# Altium footprint library Miscellaneous.PcbLib: 70 footprints (part 2 of 5)
Each footprint in its own frame and in the unit in brackets; x right, y up, seen from the top. Pads: shape width x height; smd on the part's side, far side on the other; paste and mask are expansions set on the pad; w line width, h text height; cw(c..) or ccw(c..) is an arc to the next point about the centre after c.
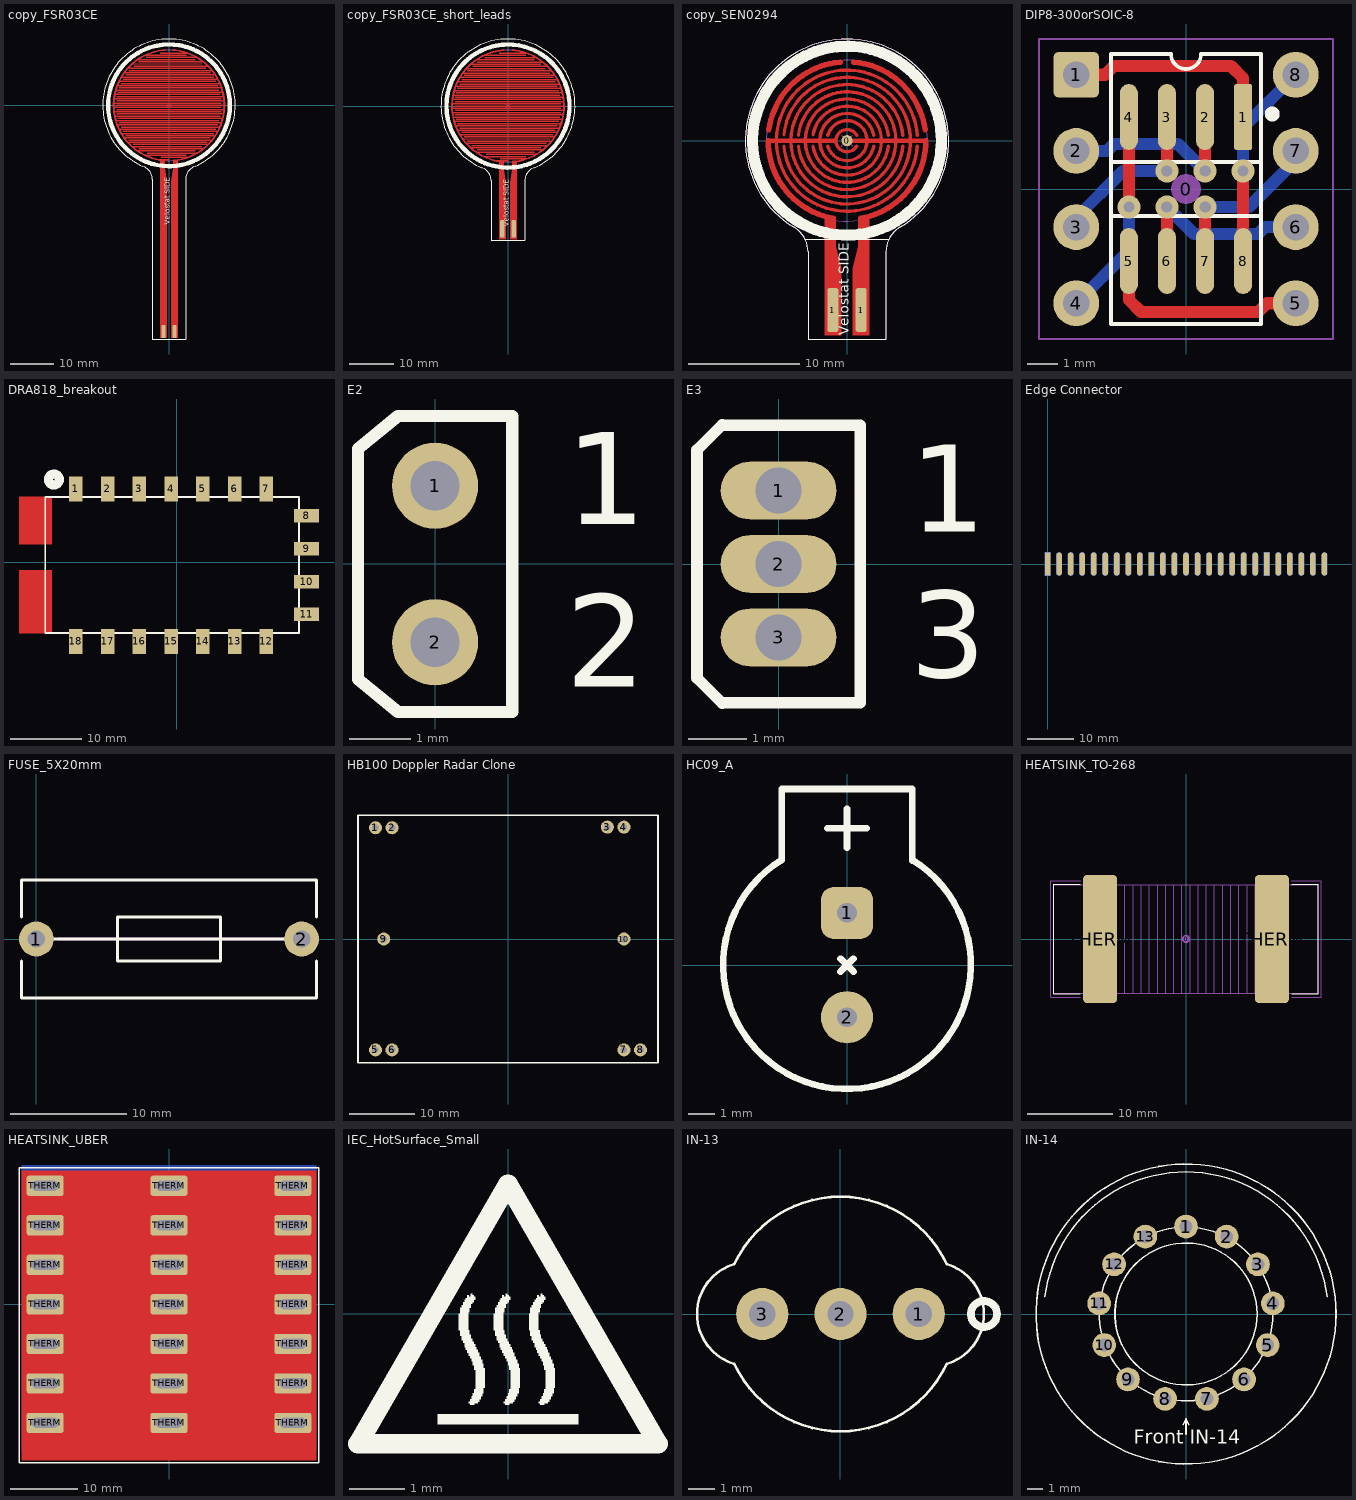
[diagram p1: the footprints below, top view; thin cyan lines are the x and y axes]

## copy_FSR03CE [mm] "FSR03CE"
pads (2):
  rrect50% 1x3 smd paste-4: 1(-1.27,-52.07) 1(1.27,-52.07)
Top Layer:
  region: -2,-53.5 -2,-12.5 -1.004,-12.5 -1.004,-14.5 -0.5,-17.5 -0.5,-53.5
  region: 2,-53.5 2,-12.5 1,-12.5 1,-14.5 0.5,-17.5 0.5,-53.5
  lines w0.3: -12.75,0.5 12,0.5 ; -12.5,-2.5 11.75,-2.5 ; -12.5,-1.5 12,-1.5 ; -12.5,-0.5 12,-0.5 ; -12.5,1.5 12,1.5 ; -12.5,2.5 11.75,2.5 ; -12.25,-3.5 11.5,-3.5 ; -12.25,3.5 11.5,3.5 ; -12,-2 12.5,-2 ; -12,-1 12.75,-1 ; -12,0 12.75,0 ; -12,1 12.5,1 ; -12,2 12.5,2 ; -12,4.5 11.25,4.5 ; -11.75,-4.5 11.25,-4.5 ; -11.75,-3 12.25,-3 ; -11.75,3 12.25,3 ; -11.5,-5.5 10.75,-5.5 ; -11.5,-4 12,-4 ; -11.5,4 12,4 ; -11.5,5.5 10.75,5.5 ; -11,-6.5 10.25,-6.5 ; -11,-5 11.75,-5 ; -11,5 11.75,5 ; -11,6.5 10.25,6.5 ; -10.5,-6 11.25,-6 ; -10.5,6 11.25,6 ; -10.25,-7.5 9.5,-7.5 ; -10.25,7.5 9.5,7.5 ; -10,-7 10.5,-7 ; -10,7 10.5,7 ; -9.5,-8.5 8.75,-8.5 ; -9.5,8.5 8.5,8.5 ; -9.25,-8 10,-8 ; -9.25,8 10,8 ; -8.5,-9.5 7.5,-9.5 ; -8.5,9.5 7.5,9.5 ; -8.25,-9 9,-9 ; -8,9 9,9 ; -7.25,-10.5 6,-10.5 ; -7.25,10.5 6,10.5 ; -7,-10 8,-10 ; -7,10 7.75,10 ; -5.5,-11.5 4,-11.5 ; -5.5,11.5 4,11.5 ; -5.25,11 6.25,11 ; -5,-11 6.5,-11 ; -2.5,-12.5 0,-12.5 ; -2,12 4.25,12 ; -1.75,-12 4.25,-12
  lines w0.4: -1.247,-12.689 cw(c0,0) -1.017,12.709 ; 1.017,12.709 cw(c0,0) 1.247,-12.689
Top Overlay:
  circle w1: c0,0 r14
  lines w0.1: -6.007,-14.017 cw(c-7.072,-17.102) -3.81,-17 -3.81,-53.75 3.81,-53.75 3.81,-17 cw(c7.072,-17.102) 6.007,-14.017 ccw(c0,0) -6.007,-14.017
  text "Velostat SIDE" at 0.641,-27.498 h2
Dimensions:
  circle w0.1: c0,0 r12.71
  lines w0.1: -0.5,-0.5 0.5,0.5 ; -0.5,0.5 0.5,-0.5

## copy_FSR03CE_short_leads [mm] "FSR03CE"
pads (2):
  rrect50% 1x4 smd paste-5: 1(-1.27,-27.94) 2(1.27,-27.94)
Top Layer:
  region: -2.5,-53
  region: -2,-30.25 -2,-12.5 -1.004,-12.5 -1.004,-14.5 -0.5,-17.5 -0.5,-30.25
  region: 2,-30.25 2,-12.5 1,-12.5 1,-14.5 0.5,-17.5 0.5,-30.25
  region: -2.5,-29.7
  lines w0.3: -12.75,0.5 12,0.5 ; -12.5,-2.5 11.75,-2.5 ; -12.5,-1.5 12,-1.5 ; -12.5,-0.5 12,-0.5 ; -12.5,1.5 12,1.5 ; -12.5,2.5 11.75,2.5 ; -12.25,-3.5 11.5,-3.5 ; -12.25,3.5 11.5,3.5 ; -12,-2 12.5,-2 ; -12,-1 12.75,-1 ; -12,0 12.75,0 ; -12,1 12.5,1 ; -12,2 12.5,2 ; -12,4.5 11.25,4.5 ; -11.75,-4.5 11.25,-4.5 ; -11.75,-3 12.25,-3 ; -11.75,3 12.25,3 ; -11.5,-5.5 10.75,-5.5 ; -11.5,-4 12,-4 ; -11.5,4 12,4 ; -11.5,5.5 10.75,5.5 ; -11,-6.5 10.25,-6.5 ; -11,-5 11.75,-5 ; -11,5 11.75,5 ; -11,6.5 10.25,6.5 ; -10.5,-6 11.25,-6 ; -10.5,6 11.25,6 ; -10.25,-7.5 9.5,-7.5 ; -10.25,7.5 9.5,7.5 ; -10,-7 10.5,-7 ; -10,7 10.5,7 ; -9.5,-8.5 8.75,-8.5 ; -9.5,8.5 8.5,8.5 ; -9.25,-8 10,-8 ; -9.25,8 10,8 ; -8.5,-9.5 7.5,-9.5 ; -8.5,9.5 7.5,9.5 ; -8.25,-9 9,-9 ; -8,9 9,9 ; -7.25,-10.5 6,-10.5 ; -7.25,10.5 6,10.5 ; -7,-10 8,-10 ; -7,10 7.75,10 ; -5.5,-11.5 4,-11.5 ; -5.5,11.5 4,11.5 ; -5.25,11 6.25,11 ; -5,-11 6.5,-11 ; -2.5,-12.5 0,-12.5 ; -2,12 4.25,12 ; -1.75,-12 4.25,-12
  lines w0.4: -1.247,-12.689 cw(c0,0) -1.017,12.709 ; 1.017,12.709 cw(c0,0) 1.247,-12.689
Top Overlay:
  circle w1: c0,0 r14
  lines w0.1: -6.007,-14.017 cw(c-7.072,-17.102) -3.81,-17 -3.81,-30.48 3.81,-30.48 3.81,-17 cw(c7.072,-17.102) 6.007,-14.017 ccw(c0,0) -6.007,-14.017
  text "Velostat SIDE" at 0.641,-27.498 h2
Dimensions:
  circle w0.1: c0,0 r12.71
  lines w0.1: -0.5,-0.5 0.5,0.5 ; -0.5,0.5 0.5,-0.5

## copy_SEN0294 [mm] "RP-C18.3-LT"
pads (3):
  round 1 smd paste-2 mask+0.102: 0(0,0)
  rrect50% 1x4 smd paste-4: 1(-1.27,-15.24) 1(1.27,-15.24)
Top Layer:
  region: 2,-17.5 2,-7 1,-7 1,-9.5 0.5,-11.5 0.5,-17.5
  region: -2,-17.5 -2,-7 -1.004,-7 -1.004,-9.484 -0.5,-11.5 -0.5,-17.5
  lines w0.3: -5.677,-0.516 ccw(c0,0) -5.677,0.516 ; -4.372,-0.5 ccw(c0,0) -4.372,0.5 ; -3.058,-0.51 ccw(c0,0) -3.058,0.51 ; -1.729,-0.5 ccw(c0,0) -1.729,0.5 ; 0.866,-0.5 cw(c0,0) 0.866,0.5 ; 2.398,-0.5 cw(c0,0) 2.398,0.5 ; 3.717,-0.5 cw(c0,0) 3.717,0.5 ; 5.025,-0.502 cw(c0,0) 5.025,0.502 ; 6.33,-0.5 cw(c0,0) 6.33,0.5
  lines w0.4: -7,0 -1,0 ; 0,0 7,0
  lines w0.5: -7.1,0 ccw(c0,0) -1.248,-6.989 ; -7.029,1.004 cw(c0,0) -0.619,7.073 ; 0.619,7.073 cw(c0,0) 7.029,1.004 ; 1.248,-6.989 ccw(c0,0) 7.1,0
Top Overlay:
  circle w1: c0,0 r8.5
  lines w0.1: -3.784,-8.85 3.784,-8.85 ; -4.849,-7.759 cw(c0,0) 4.849,-7.759 ccw(c6.079,-10.026) 3.5,-10 3.5,-17.85 -3.5,-17.85 -3.5,-10 ccw(c-6.079,-10.026) -4.849,-7.759
  text "Velostat SIDE" at 0.481,-17.499 h1.5
Dimensions:
  circle w0.1: c0,0 r7.25
  lines w0.1: -0.5,-0.5 0.5,0.5 ; -0.5,0.5 0.5,-0.5 ; -4.849,-7.759 cw(c-6.079,-10.026) -3.5,-10 -3.5,-17.85 3.5,-17.85 3.5,-10 cw(c6.079,-10.026) 4.849,-7.759 ccw(c0,0) -4.849,-7.759

## DIP8-300orSOIC-8 [mil] "DIP, 8-Leads, 0.300\" lead span , 0.100\" lead pitch, IPC Density A"
height 210
pads (17):
  round 39.37 on Mech15: 0(0,0)
  rrect25% 60x60 hole 35: 1(-144,150)
  rrect25% 23.62x86.61 smd paste-78.74: 1(75,94.49)
  round 60 hole 35: 2(-144,50) 3(-144,-50) 4(-144,-150) 5(144,-150) 6(144,-50) 7(144,50) 8(144,150)
  oval 23.62x86.61 smd paste-78.74: 2(25,94.49) 3(-25,94.49) 4(-75,94.49) 5(-75,-94.49) 6(-25,-94.49) 7(25,-94.49) 8(75,-94.49)
via -74.8,-23.62 diameter 30 hole 15
via 74.8,23.62 diameter 30 hole 15
via -25,23.62 diameter 30 hole 15
via 25,23.62 diameter 30 hole 15
via -25,-23.62 diameter 30 hole 15
via 25,-23.62 diameter 30 hole 15
Top Layer:
  lines w16: -144,150 -106.3,150 -94.88,161.42 59.06,161.42 75,145.47 75,94.49 ; -75,-94.49 -75,-145.47 -59.06,-161.42 94.88,-161.42 106.3,-150 144,-150 ; -75,-23.43 -75,94.49 ; -25,-94.49 -25,-23.62 ; -25,23.62 -25,94.49 ; 25,-94.49 25,-23.62 ; 25,23.62 25,94.49 ; 75,-94.49 75,23.43
Bottom Layer:
  lines w16: -144,-150 -74.8,-80.8 -74.8,-23.62 ; -144,-50 -144,-37.7 -82.68,23.62 -25,23.62 ; -144,50 -103.54,50 -94.49,59.06 -10.43,59.06 25,23.62 ; -25,-23.62 10.43,-59.06 94.49,-59.06 103.54,-50 144,-50 ; 25,-23.62 82.68,-23.62 132.68,26.38 132.68,50 144,50 ; 74.8,23.62 74.8,80.8 144,150
Top Overlay:
  circle w9.84: c113.19,98.43 r4.92
  lines w5: -98.43,-177.17 98.43,-177.17 98.43,177.17 19.69,177.17 cw(c0,177.17) -19.69,177.17 -98.43,177.17 -98.43,-177.17 ; -98.43,-35.43 -98.43,35.43 98.43,35.43 98.43,-35.43 -98.43,-35.43
Top Paste:
  region: 65.55,129.13 65.55,59.84 84.45,59.84 84.45,129.13
  region: 15.55,129.13 15.55,59.84 34.45,59.84 34.45,129.13
  region: -34.45,129.13 -34.45,59.84 -15.55,59.84 -15.55,129.13
  region: -84.45,129.13 -84.45,59.84 -65.55,59.84 -65.55,129.13
  region: 65.55,-59.84 65.55,-129.13 84.45,-129.13 84.45,-59.84
  region: 15.55,-59.84 15.55,-129.13 34.45,-129.13 34.45,-59.84
  region: -34.45,-59.84 -34.45,-129.13 -15.55,-129.13 -15.55,-59.84
  region: -84.45,-59.84 -84.45,-129.13 -65.55,-129.13 -65.55,-59.84
Mechanical 13:
  lines w3: -98.43,-177.17 -98.43,177.17 -19.69,177.17 ccw(c0,177.17) 19.69,177.17 98.43,177.17 98.43,-177.17 -98.43,-177.17
Mechanical 15:
  lines w3: -192.91,-196.85 192.91,-196.85 192.91,196.85 -192.91,196.85 -192.91,-196.85
3D body "SW3DPS-DIP8-DEFAULT.STEP": height 165, standoff -105, extent -149,-225 161,225

## DRA818_breakout [mm]
pads (18):
  rect 1.9x3.5 smd: 1(-14.125,10.3) 2(-9.675,10.3) 3(-5.225,10.3) 4(-0.775,10.3) 5(3.675,10.3) 6(8.125,10.3) 7(12.575,10.3) 12(12.575,-11.1) 13(8.125,-11.1) 14(3.675,-11.1) 15(-0.775,-11.1) 16(-5.225,-11.1) 17(-9.675,-11.1) 18(-14.125,-11.1)
  rect 3.5x1.9 smd: 8(18.2,6.499) 9(18.2,1.9) 10(18.2,-2.701) 11(18.2,-7.301)
Top Layer:
  rectangle: -22.1,2.5 -17.5,9.2
  rectangle: -22.1,-10 -17.5,-1.1
Top Overlay:
  circle w1.27: c-17.2,11.6 r0.764
  lines w0.254: -18.415,-9.906 -18.415,9.144 17.145,9.144 17.145,-9.906 -18.415,-9.906
Drill Guide:
  lines w0.254: 12.321,10.3 12.829,10.3 ; 12.575,10.046 12.575,10.554
3D body: height 3, standoff 0, extent -18.414,-9.905 17.144,9.143

## E2 [mm] "TO, Flat Index; 2 In-Line, Axial Leads; Body Dia. 4.6mm; Lead Dia. 0.5 mm (max)"
height 4.01
pads (2):
  round 1.4 hole 0.8: 1(0,1.27) 2(0,-1.27)
Top Overlay:
  lines w0.2: -1.25,-1.87 -1.25,1.87 -0.6,2.4 1.25,2.4 1.25,-2.4 -0.6,-2.4 -1.25,-1.87
  text "1" at 2.117,0.647 h1.5
  text "2" at 2.117,-1.988 h1.5

## E3 [mm] "TO, Flat Index; 3 In-Line, Axial Leads; Body Dia. 4.6mm; Lead Dia. 0.5 mm (max)"
height 4.01
pads (3):
  oval 2x1 hole 0.8: 1(0,1.27) 2(0,0) 3(0,-1.27)
Top Overlay:
  lines w0.2: -0.97,-2.41 -1.41,-1.97 -1.41,1.97 -0.97,2.41 ; -0.97,-2.4 1.41,-2.4 1.41,2.4 -0.97,2.4
  text "3" at 2.275,-1.963 h1.5
  text "1" at 2.275,0.555 h1.5

## Edge Connector [mm]
pads (50):
  rect 1.2x5 smd: A1(0,0) A10(22.5,0) A20(47.5,0)
  oval 1.2x5 smd: A2(2.5,0) A3(5,0) A4(7.5,0) A5(10,0) A6(12.5,0) A7(15,0) A8(17.5,0) A9(20,0) A11(25,0) A12(27.5,0) A13(30,0) A14(32.5,0) A15(35,0) A16(37.5,0) A17(40,0) A18(42.5,0) A19(45,0) A21(50,0) A22(52.5,0) A23(55,0) A24(57.5,0) A25(60,0)
  rect 1.2x5 smd far side: B1(0,0) B10(22.5,0) B20(47.5,0)
  oval 1.2x5 smd far side: B2(2.5,0) B3(5,0) B4(7.5,0) B5(10,0) B6(12.5,0) B7(15,0) B8(17.5,0) B9(20,0) B11(25,0) B12(27.5,0) B13(30,0) B14(32.5,0) B15(35,0) B16(37.5,0) B17(40,0) B18(42.5,0) B19(45,0) B21(50,0) B22(52.5,0) B23(55,0) B24(57.5,0) B25(60,0)

## FUSE_5X20mm [mm]
pads (2):
  round 3 hole 1.5: 1(0,0) 2(22.86,0)
Top Overlay:
  lines w0.25: -1.27,-1.905 -1.27,-5.08 24.13,-5.08 24.13,-1.905 ; -1.27,1.905 -1.27,5.08 24.13,5.08 24.13,1.905 ; 0,0 22.86,0 ; 6.985,-1.905 6.985,0 6.985,1.905 11.43,1.905 15.875,1.905 15.875,0 15.875,-1.905 11.43,-1.905 6.985,-1.905
Mechanical 1:
  lines w0.25: 1.905,0 21.905,0
3D body "User Library-5x20mm PCB Fuse Holder Assy_ 1.STEP": height 14.47, standoff -3.88, extent -0.682,-4.536 23.568,4.464

## HB100 Doppler Radar Clone [mm] "HB100 Doppler Radar Unit, dimensions are for clone modules which have a smaller board outline but same pin centres as the genuine parts."
pads (10):
  round 2 hole 1: 1(-20.32,17.06) 2(-17.78,17.06) 3(15.24,17.16) 4(17.78,17.16) 5(-20.32,-17.01) 6(-17.78,-17.01) 7(17.78,-17.01) 8(20.32,-17.01) 9(-19.05,0) 10(17.78,0)
Top Overlay:
  lines w0.254: -23,-19 -23,19 23,19 23,-19 -23,-19
3D body "User Library-HB100-Clone-1.step": height -0.95, standoff -9, extent -22.5,-18.5 22.5,18.5

## HC09_A [mm]
height 5
pads (2):
  rrect50% 2x2 hole 0.75: 1(0,2)
  round 2 hole 0.75: 2(0,-2)
Top Overlay:
  lines w0.254: -2.517,4.028 ccw(c0,0) 2.517,4.028 ; -2.5,4.028 -2.5,6.75 2.5,6.75 2.5,4 ; -0.75,5.25 0.75,5.25 ; -0.25,-0.25 0.25,0.25 ; -0.25,0.25 0.25,-0.25 ; 0,4.5 0,6

## HEATSINK_TO-268 [mm] "SMD heatsink for use with TO-268 / D3-PAK component"
height 10.16
pads (3):
  round 1 on Mech15: 0(0,0)
  rrect25% 4x15 smd: THERM(-10.05,0) THERM(10.05,0)
Top Overlay:
  lines w0.127: -12.4,-6.4 -15.5,-6.4 -15.5,6.4 -12.4,6.4 ; 12.4,-6.4 15.5,-6.4 15.5,6.4 12.4,6.4
Mechanical 13:
  lines w0.05: -10.275,-6.35 -10.275,-6.477 -8.775,-6.477 -8.775,-6.35 ; -10.275,6.35 -10.275,6.477 -8.775,6.477 -8.775,6.35 ; -9.366,-6.35 -9.366,6.35 ; -8.096,-6.35 -8.096,6.35 ; -7.144,-6.35 -7.144,6.35 ; -6.191,-6.35 -6.191,6.35 ; -5.239,-6.35 -5.239,6.35 ; -4.286,-6.35 -4.286,6.35 ; -3.334,-6.35 -3.334,6.35 ; -2.381,-6.35 -2.381,6.35 ; -1.429,-6.35 -1.429,6.35 ; -0.476,-6.35 -0.476,6.35 ; 0.476,-6.35 0.476,6.35 ; 1.429,-6.35 1.429,6.35 ; 2.381,-6.35 2.381,6.35 ; 3.334,-6.35 3.334,6.35 ; 4.286,-6.35 4.286,6.35 ; 5.239,-6.35 5.239,6.35 ; 6.191,-6.35 6.191,6.35 ; 7.144,-6.35 7.144,6.35 ; 8.096,-6.35 8.096,6.35 ; 8.775,-6.35 8.775,-6.477 10.275,-6.477 10.275,-6.35 ; 8.775,6.35 8.775,6.477 10.275,6.477 10.275,6.35 ; 9.366,-6.35 9.366,6.35 ; -15.5,-6.35 -15.5,6.35 15.5,6.35 15.5,-6.35 -15.5,-6.35
Mechanical 15:
  lines w0.127: -12.4,-6.8 -15.8,-6.8 -15.8,6.8 -12.3,6.8 ; 12.3,6.8 15.8,6.8 15.8,-6.8 12.4,-6.8
3D body "Ohmite Style 10 Heatsink.STEP": height 10.16, standoff 0.01, extent -15.5,-6.477 15.5,6.477

## HEATSINK_UBER [mm]
height 60
pads (21):
  rrect20% 5.5x3 hole 1.5 slot 4 at 0 deg: THERM(-18.5,-17.7) THERM(-18.5,-11.8) THERM(-18.5,-5.9) THERM(-18.5,0) THERM(-18.5,5.9) THERM(-18.5,11.8) THERM(-18.5,17.7) THERM(0,-17.7) THERM(0,-11.8) THERM(0,-5.9) THERM(0,0) THERM(0,5.9) THERM(0,11.8) THERM(0,17.7) THERM(18.5,-17.7) THERM(18.5,-11.8) THERM(18.5,-5.9) THERM(18.5,0) THERM(18.5,5.9) THERM(18.5,11.8) THERM(18.5,17.7)
Top Layer:
  rectangle: -22,-23.3 22,20
Bottom Layer:
  region: 22,20.8 -22,20.8 -22,-22 22,-22
Top Overlay:
  lines w0.2: -22.4,-23.7 22.4,-23.7 22.4,20.4 -22.4,20.4 -22.4,-23.7
Mechanical 13:
  lines w0.05: -15.5,-18.395 -3,-18.395 ; -15.5,-18.145 -15.5,-22.443 -3,-22.443 -3,-18.145 ; -15.5,-12.495 -3,-12.495 ; -15.5,-12.245 -15.5,-16.543 -3,-16.543 -3,-12.245 ; -15.5,-6.595 -3,-6.595 ; -15.5,-6.345 -15.5,-10.643 -3,-10.643 -3,-6.345 ; -15.5,-0.694 -3,-0.694 ; -15.5,-0.445 -15.5,-4.743 -3,-4.743 -3,-0.445 ; -15.5,5.206 -3,5.206 ; -15.5,5.456 -15.5,1.157 -3,1.157 -3,5.456 ; -15.5,11.106 -3,11.106 ; -15.5,11.356 -15.5,7.057 -3,7.057 -3,11.356 ; -15.5,17.006 -3,17.006 ; -15.5,17.256 -15.5,12.957 -3,12.957 -3,17.256 ; 3,-18.395 15.5,-18.395 ; 3,-18.145 3,-22.443 15.5,-22.443 15.5,-18.145 ; 3,-12.495 15.5,-12.495 ; 3,-12.245 3,-16.543 15.5,-16.543 15.5,-12.245 ; 3,-6.595 15.5,-6.595 ; 3,-6.345 3,-10.643 15.5,-10.643 15.5,-6.345 ; 3,-0.694 15.5,-0.694 ; 3,-0.445 3,-4.743 15.5,-4.743 15.5,-0.445 ; 3,5.206 15.5,5.206 ; 3,5.456 3,1.157 15.5,1.157 15.5,5.456 ; 3,11.106 15.5,11.106 ; 3,11.356 3,7.057 15.5,7.057 15.5,11.356 ; 3,17.006 15.5,17.006 ; 3,17.256 3,12.957 15.5,12.957 15.5,17.256 ; -20,-18.145 20,-18.145 20,-17.256 -20,-17.256 -20,-18.145 ; -20,-12.245 -20,-11.356 20,-11.356 20,-12.245 -20,-12.245 ; -20,-6.345 -20,-5.456 20,-5.456 20,-6.345 -20,-6.345 ; -20,-0.445 -20,0.445 20,0.445 20,-0.445 -20,-0.445 ; -20,5.456 -20,6.345 20,6.345 20,5.456 -20,5.456 ; -20,11.356 -20,12.245 20,12.245 20,11.356 -20,11.356 ; -20,17.256 -20,18.145 20,18.145 20,17.256 -20,17.256
3D body "heatsink assy.STEP": height 60, standoff -2.48, extent -20,-22.442 20,19.945

## IEC_HotSurface_Small [mil]
height 43.31
Top Overlay:
  drawing of 10 lines, arcs and shapes, not listed

## IN-13 [mm]
pads (3):
  round 2 hole 1: 1(3,0) 2(0,0) 3(-3,0)
Top Overlay:
  circle w0.3: c5.5,0 r0.5
  lines w0.1: -4.071,-1.917 cw(c-3.5,0) -4.071,1.917 cw(c0,0) 4.071,1.917 cw(c3.5,0) 4.071,-1.917 cw(c0,0) -4.071,-1.917
3D body: height 161, standoff 1, extent -4.464,-4.491 4.5,4.491
3D body: height 8, standoff 1, extent -5.5,-5.5 5.5,5.5

## IN-14 [mm]
pads (13):
  round 1.5 hole 0.8: 1(0,5.54) 2(2.575,4.905) 3(4.559,3.147) 4(5.5,0.668) 5(5.18,-1.964) 6(3.674,-4.147) 7(1.326,-5.379) 8(-1.326,-5.379) 9(-3.674,-4.147) 10(-5.18,-1.965) 11(-5.5,0.667) 12(-4.56,3.147) 13(-2.575,4.905)
Top Overlay:
  circle w0.1: c0,0 r5.5
  circle w0.1: c0,0 r4.5
  circle w0.1: c0,0 r9.5
  lines w0.1: -8.934,1.085 cw(c0,0) 8.934,1.084 ; -0.176,-6.996 0,-6.644 ; 0,-7.604 0,-6.644 ; 0.176,-6.996 0,-6.644
  text "Front IN-14" at -3.306,-8.514 h1.5
Bottom Overlay:
  text "k\",\"" at 4.426,6.291 h1.5
  text "k\"0\"" at 7.314,3.809 h1.5
  text "k\"9\"" at 8.594,0.435 h1.5
  text "k\"8\"" at 8.159,-3.147 h1.5
  text "k\"7\"" at 5.778,-5.75 h1.5
  text "k\"6\"" at 2.794,-7.309 h1.5
  text "k\"5\"" at -0.575,-7.308 h1.5
  text "k\"4\"" at -3.89,-6.124 h1.5
  text "k\"3\"" at -5.941,-3.148 h1.5
  text "k\"2\"" at -6.376,0.427 h1.5
  text "k\"1\"" at -5.096,3.801 h1.5
  text "k\",\"" at -2.582,6.291 h1.5
  text "Anode" at 1.914,6.567 h1.5
3D body "User Library-IN-14.step": height 62.61, standoff 0, extent -9.3,-9.5 9.3,9.3